# EAGLE library part DF40-80 (library kmod-connectors)
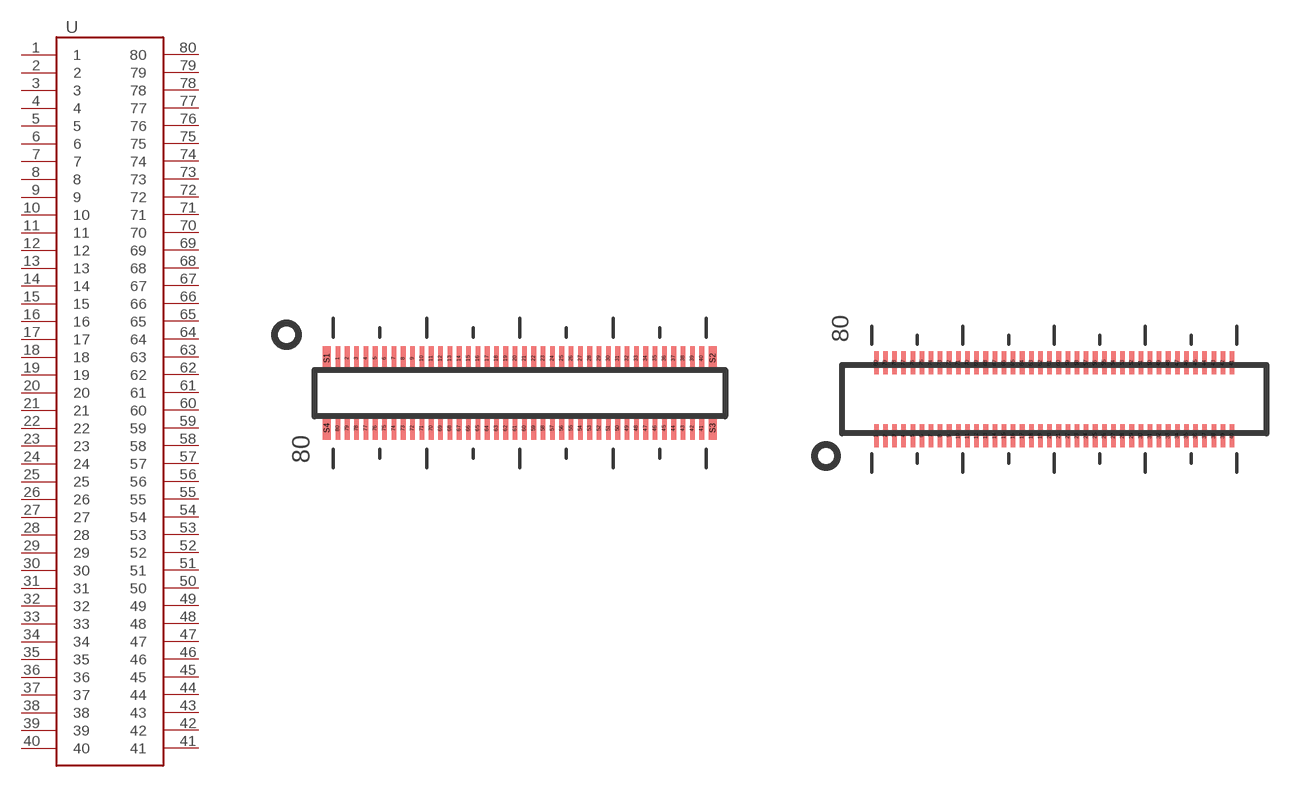
[diagram p11: symbol with the pads of DF40-HDR-80; footprints DF40-HDR-80, DF40-RCP-80]

Designator prefix -

## DF40-80HDR  [DF40-HDR-80]
1  1
2  2
3  3
4  4
5  5
6  6
7  7
8  8
9  9
10  10
11  11
12  12
13  13
14  14
15  15
16  16
17  17
18  18
19  19
20  20
21  21
22  22
23  23
24  24
25  25
26  26
27  27
28  28
29  29
30  30
31  31
32  32
33  33
34  34
35  35
36  36
37  37
38  38
39  39
40  40
41  41
42  42
43  43
44  44
45  45
46  46
47  47
48  48
49  49
50  50
51  51
52  52
53  53
54  54
55  55
56  56
57  57
58  58
59  59
60  60
61  61
62  62
63  63
64  64
65  65
66  66
67  67
68  68
69  69
70  70
71  71
72  72
73  73
74  74
75  75
76  76
77  77
78  78
79  79
80  80

## DF40-80RCP  [DF40-RCP-80]
Pads as for DF40-HDR-80

## Footprint DF40-HDR-80 (pad centres in mm)
Hirose DF40 80-pin header From http://www.hirose.co.jp/cataloge_hp/ed_DF40_20140305.pdf Changes: lengthened pads, thinned pads Untested!
smd 0.2 x 1: 1 -7.8,1.5; 2 -7.4,1.5; 3 -7,1.5; 4 -6.6,1.5; 5 -6.2,1.5; 6 -5.8,1.5; 7 -5.4,1.5; 8 -5,1.5; 9 -4.6,1.5; 10 -4.2,1.5; 11 -3.8,1.5; 12 -3.4,1.5; 13 -3,1.5; 14 -2.6,1.5; 15 -2.2,1.5; 16 -1.8,1.5; 17 -1.4,1.5; 18 -1,1.5; 19 -0.6,1.5; 20 -0.2,1.5; 21 0.2,1.5; 22 0.6,1.5; 23 1,1.5; 24 1.4,1.5; 25 1.8,1.5; 26 2.2,1.5; 27 2.6,1.5; 28 3,1.5; 29 3.4,1.5; 30 3.8,1.5; 31 4.2,1.5; 32 4.6,1.5; 33 5,1.5; 34 5.4,1.5; 35 5.8,1.5; 36 6.2,1.5; 37 6.6,1.5; 38 7,1.5; 39 7.4,1.5; 40 7.8,1.5; 41 7.8,-1.5; 42 7.4,-1.5; 43 7,-1.5; 44 6.6,-1.5; 45 6.2,-1.5; 46 5.8,-1.5; 47 5.4,-1.5; 48 5,-1.5; 49 4.6,-1.5; 50 4.2,-1.5; 51 3.8,-1.5; 52 3.4,-1.5; 53 3,-1.5; 54 2.6,-1.5; 55 2.2,-1.5; 56 1.8,-1.5; 57 1.4,-1.5; 58 1,-1.5; 59 0.6,-1.5; 60 0.2,-1.5; 61 -0.2,-1.5; 62 -0.6,-1.5; 63 -1,-1.5; 64 -1.4,-1.5; 65 -1.8,-1.5; 66 -2.2,-1.5; 67 -2.6,-1.5; 68 -3,-1.5; 69 -3.4,-1.5; 70 -3.8,-1.5; 71 -4.2,-1.5; 72 -4.6,-1.5; 73 -5,-1.5; 74 -5.4,-1.5; 75 -5.8,-1.5; 76 -6.2,-1.5; 77 -6.6,-1.5; 78 -7,-1.5; 79 -7.4,-1.5; 80 -7.8,-1.5
smd 0.35 x 1: S1 -8.275,1.5; S2 8.275,1.5; S3 8.275,-1.5; S4 -8.275,-1.5

## Footprint DF40-RCP-80 (pad centres in mm)
Hirose DF40 80-pin receptacle From http://www.hirose.co.jp/cataloge_hp/ed_DF40_20140305.pdf Untested!
smd 0.2 x 1: 1 -7.8,-1.6; 2 -7.4,-1.6; 3 -7,-1.6; 4 -6.6,-1.6; 5 -6.2,-1.6; 6 -5.8,-1.6; 7 -5.4,-1.6; 8 -5,-1.6; 9 -4.6,-1.6; 10 -4.2,-1.6; 11 -3.8,-1.6; 12 -3.4,-1.6; 13 -3,-1.6; 14 -2.6,-1.6; 15 -2.2,-1.6; 16 -1.8,-1.6; 17 -1.4,-1.6; 18 -1,-1.6; 19 -0.6,-1.6; 20 -0.2,-1.6; 21 0.2,-1.6; 22 0.6,-1.6; 23 1,-1.6; 24 1.4,-1.6; 25 1.8,-1.6; 26 2.2,-1.6; 27 2.6,-1.6; 28 3,-1.6; 29 3.4,-1.6; 30 3.8,-1.6; 31 4.2,-1.6; 32 4.6,-1.6; 33 5,-1.6; 34 5.4,-1.6; 35 5.8,-1.6; 36 6.2,-1.6; 37 6.6,-1.6; 38 7,-1.6; 39 7.4,-1.6; 40 7.8,-1.6; 41 7.8,1.6; 42 7.4,1.6; 43 7,1.6; 44 6.6,1.6; 45 6.2,1.6; 46 5.8,1.6; 47 5.4,1.6; 48 5,1.6; 49 4.6,1.6; 50 4.2,1.6; 51 3.8,1.6; 52 3.4,1.6; 53 3,1.6; 54 2.6,1.6; 55 2.2,1.6; 56 1.8,1.6; 57 1.4,1.6; 58 1,1.6; 59 0.6,1.6; 60 0.2,1.6; 61 -0.2,1.6; 62 -0.6,1.6; 63 -1,1.6; 64 -1.4,1.6; 65 -1.8,1.6; 66 -2.2,1.6; 67 -2.6,1.6; 68 -3,1.6; 69 -3.4,1.6; 70 -3.8,1.6; 71 -4.2,1.6; 72 -4.6,1.6; 73 -5,1.6; 74 -5.4,1.6; 75 -5.8,1.6; 76 -6.2,1.6; 77 -6.6,1.6; 78 -7,1.6; 79 -7.4,1.6; 80 -7.8,1.6